# Altium integrated library Regulator_Switching.IntLib: 40 symbols
Pins are listed as number, name and electrical type; pins without a type are passive.

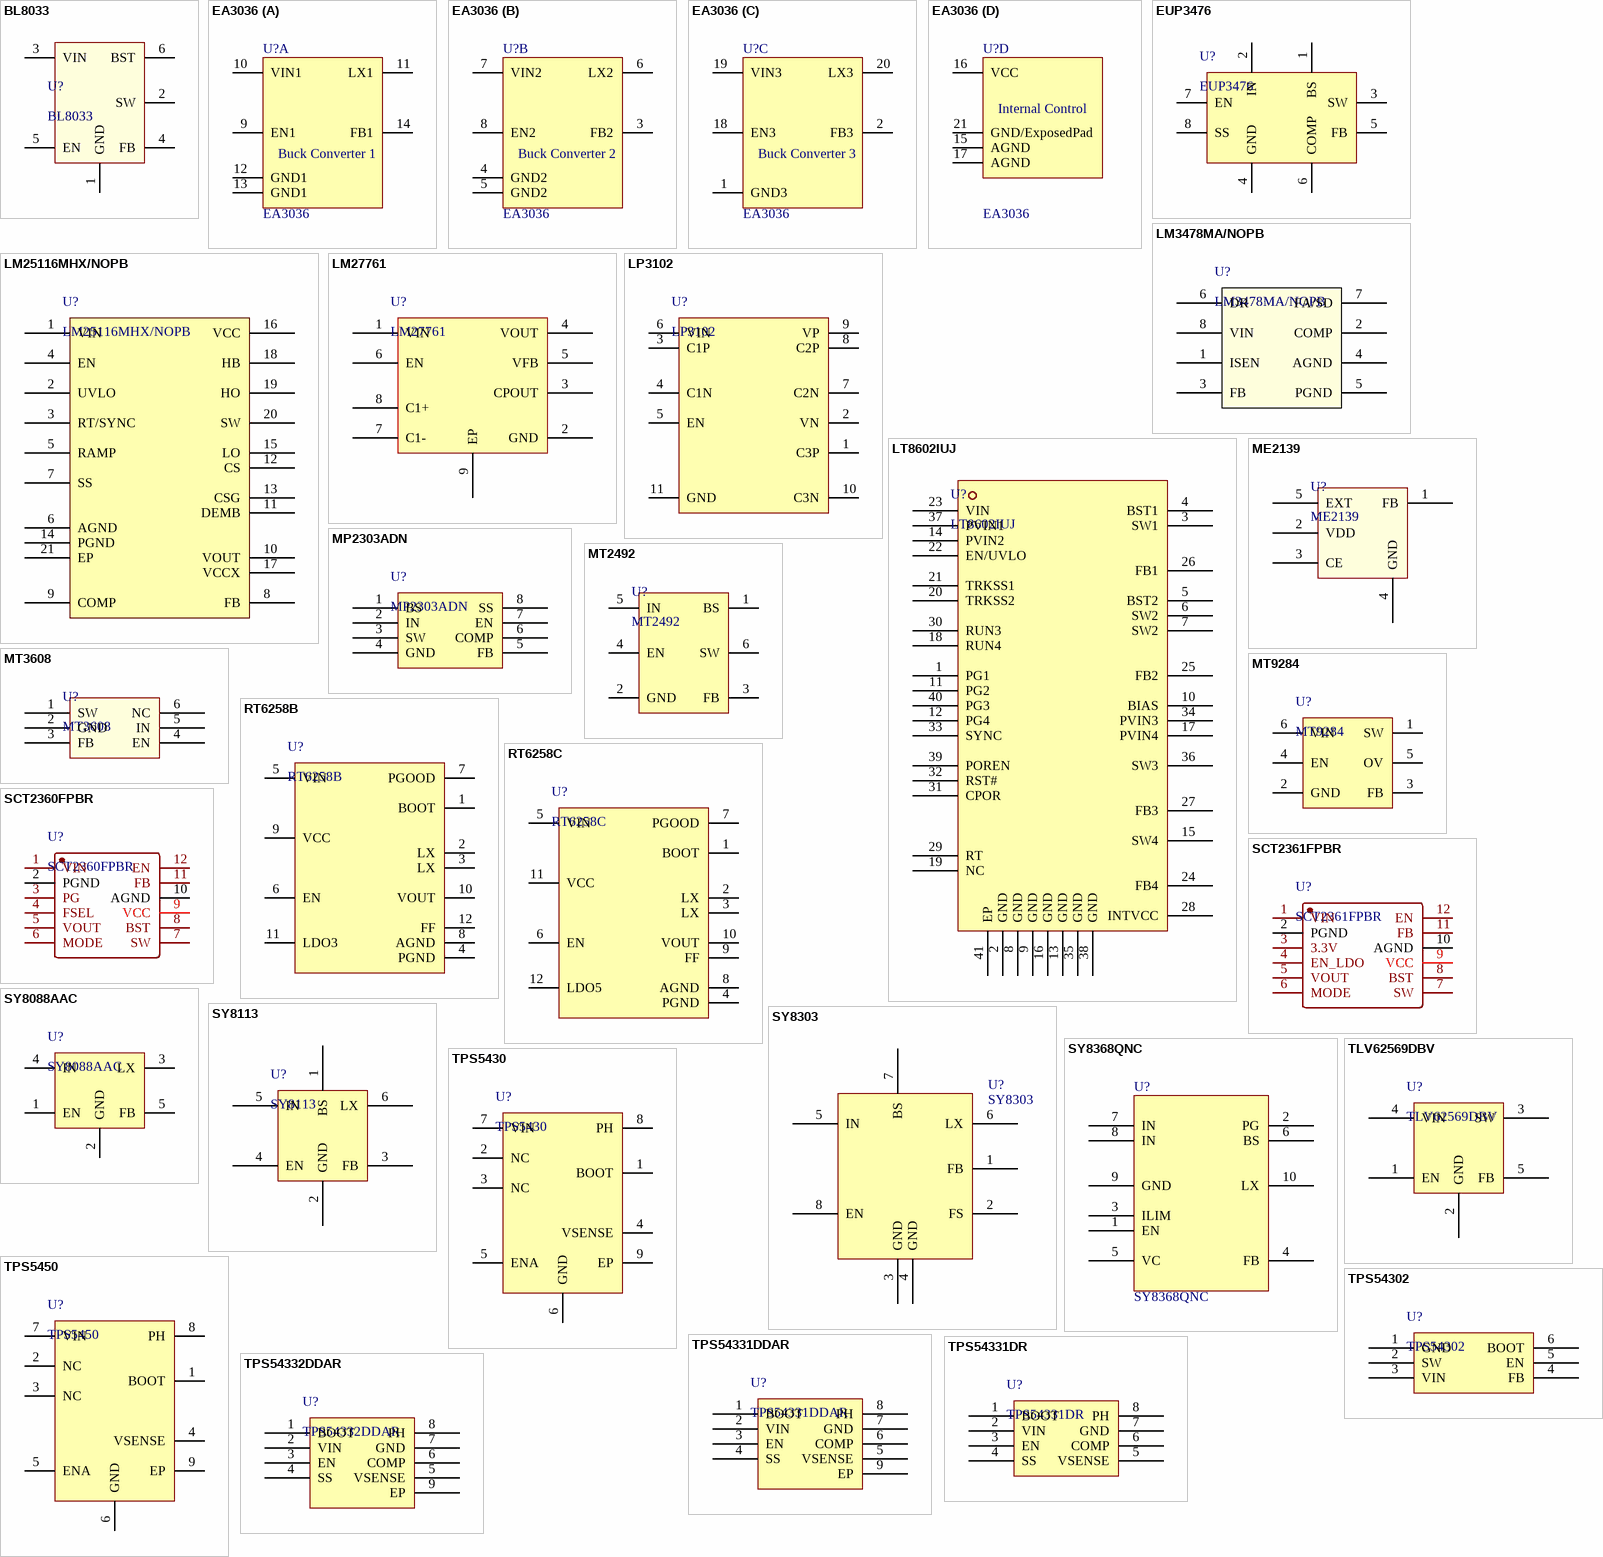
[diagram p0: symbols BL8033 to TPS54332DDAR]

## BL8033
designator U?
500KHz, 16V, 3A Synchronous Step-Down Converter
footprint SOT-23-6 (SOT23, 6-Leads, Body 2.90x2.80mm, Pitch 0.95mm, IPC Medium Density)
pins: 1 GND, 2 SW, 3 VIN, 4 FB, 5 EN, 6 BST

## EA3036
designator U?
EA3036 is a 3CH power management IC for applications powered by one Li-Ion battery or a DC 5V adapter.
footprint QFN-20-1EP_3x3mm_P0.4mm_EP1.6x1.6mm (QFN, 20-Leads, Body 3.00x3.00mm, Pitch 0.40mm, Thermal Pad 1.60x1.60mm, IPC Medium Density)
part A pins: 9 EN1 "CH1 turns on/turns off control input. Don’t leave this pin floating.", 10 VIN1 (power) "Power input pin of CH1. Recommended to use a 10uF MLCC capacitor between VIN1 pin and GND1 pin.", 11 LX1 "Internal MOSFET switching output of CH1. Connect LX1 pin with a low pass filter circuit to obtain a stable DC output voltage.", 12 GND1 (power) "Power ground pin of CH1.", 13 GND1 (power) "Power ground pin of CH1.", 14 FB1 "Feedback input of CH1. Connect to output voltage with a resistor divider."
part B pins: 3 FB2 "Feedback input of CH2. Connect to output voltage with a resistor divider.", 4 GND2 (power) "Power ground pin of CH2.", 5 GND2 (power) "Power ground pin of CH2.", 6 LX2 "Internal MOSFET switching output of CH2. Connect LX2 pin with a low pass filter circuit to obtain a stable DC output voltage.", 7 VIN2 (power) "Power input pin of CH2. Recommended to use a 10uF MLCC capacitor between VIN2 pin and GND2 pin.", 8 EN2 "CH2 turns on/turns off control input. Don’t leave this pin floating."
part C pins: 1 GND3 (power) "Power ground pin of CH3.", 2 FB3 "Feedback input of CH3. Connect to output voltage with a resistor divider.", 18 EN3 "CH3 turns on/turns off control input. Don’t leave this pin floating.", 19 VIN3 (power) "Power input pin of CH3. Recommended to use a 10uF MLCC capacitor between VIN3 pin and GND3 pin.", 20 LX3 "Internal MOSFET switching output of CH3. Connect SW3 pin with a low pass filter circuit to obtain a stable DC output voltage."
part D pins: 15 AGND (power) "Analog ground pin.", 16 VCC (power) "Input supply pin for internal control circuit.", 17 AGND (power) "Analog ground pin.", 21 GND/ExposedPad (power) "The Exposed Pad must be soldered to a large PCB copper plane and connected to GND for appropriate dissipation."
part A text: Buck Converter 1
part B text: Buck Converter 2
part C text: Buck Converter 3
part D text: Internal Control

## EUP3476
designator U?
3A, 28V, 500kHz Synchronous Step-Down Converter
footprint SO-8_3.9x4.9mm_P1.27mm (SOIC, 8-Leads, Body 4.9x3.90mm, Pitch 1.27mm, IPC Medium Density)
pins: 1 BS, 2 IN, 3 SW, 4 GND, 5 FB, 6 COMP, 7 EN, 8 SS

## LM3478MA/NOPB
designator U?
High Efficiency Low-Side N-Channel Controller for Switching Regulator; Manufacturer: Texas Instruments; basePN: LM3478; NSC_PackageReference: M08A; DatasheetURL: http://www.ti.com/lit/ds/symlink/lm3478.pdf; Manufacturer_Part_Number: LM3478MA/NOPB; Vendor: Texas Instruments; Copyright: Copyright (C) 2021 Accelerated Designs. All rights reserved; RefDes: RefDes; Type: DEV
footprint SO-8_3.9x4.9mm_P1.27mm (SOIC, 8-Leads, Body 4.9x3.90mm, Pitch 1.27mm, IPC Medium Density)
pins: 1 ISEN, 2 COMP, 3 FB, 4 AGND (power), 5 PGND (power), 6 DR, 7 FA/SD, 8 VIN

## LM25116MHX/NOPB
designator U?
LM25116 Wide-Range Synchronous Buck Controller
footprint SSOP-20-1EP_6.50x4.4mm_P0.65_EP3x4.2mm (TSOP, 20-Leads, Body 6.50x4.40mm, Pitch 0.65mm, IPC Medium Density)
pins: 1 VIN, 2 UVLO, 3 RT/SYNC, 4 EN, 5 RAMP, 6 AGND, 7 SS, 8 FB, 9 COMP, 10 VOUT, 11 DEMB, 12 CS, 13 CSG, 14 PGND, 15 LO, 16 VCC, 17 VCCX, 18 HB, 19 HO, 20 SW, 21 EP

## LM27761
designator U?
LM27761 低噪声稳压开关电容器电压逆变器
footprint WSON-8-1EP_2x2mm_P0.5mm_EP0.9x1.6mm (QFN, 8-Leads, Body 2.00x2.00mm, Pitch 0.50mm, Thermal Pad 0.90x1.60mm, IPC Medium Density)
pins: 1 VIN, 2 GND, 3 CPOUT, 4 VOUT, 5 VFB, 6 EN, 7 C1-, 8 C1+, 9 EP

## LP3102
designator U?
Dual Channel Charge Pump Power Solution For TFT LCD Panel
footprint TDFN-10-1EP_3X3mm_P0.5mm_EP2.5x1.55mm (SON, 10-Leads, Body 3.00x3.00mm, Pitch 0.50mm, Thermal Pad 2.50x1.55mm, IPC Medium Density)
pins: 1 C3P, 2 VN, 3 C1P, 4 C1N, 5 EN, 6 VIN, 7 C2N, 8 C2P, 9 VP, 10 C3N, 11 GND

## LT8602IUJ
designator U?
42V Quad Monolithic Synchronous Step-Down Regulator
footprint QFN-40-1EP_6x6mm_P0.5mm-EP4.5x4.5mm
pins: 1 PG1, 2 GND, 3 SW1, 4 BST1, 5 BST2, 6 SW2, 7 SW2, 8 GND, 9 GND, 10 BIAS, 11 PG2, 12 PG4, 13 GND, 14 PVIN2, 15 SW4, 16 GND, 17 PVIN4, 18 RUN4, 19 NC, 20 TRKSS2, 21 TRKSS1, 22 EN/UVLO, 23 VIN, 24 FB4, 25 FB2, 26 FB1, 27 FB3, 28 INTVCC, 29 RT, 30 RUN3, 31 CPOR, 32 RST#, 33 SYNC, 34 PVIN3, 35 GND, 36 SW3, 37 PVIN1, 38 GND, 39 POREN, 40 PG3, 41 EP

## ME2139
designator U?
ULTRA-SMALL PACKAGE PWM/PFM SWITCHING CONTROL STEP-UP SWITCHING REGULATOR
footprint SOT-23-5 (SOT23, 5-Leads, Body 2.90x2.45mm, Pitch 0.95mm, IPC Medium Density)
pins: 1 FB, 2 VDD, 3 CE, 4 GND, 5 EXT

## MP2303ADN
designator U?
footprint SO-8_3.9x4.9mm_P1.27mm (SOIC, 8-Leads, Body 4.9x3.90mm, Pitch 1.27mm, IPC Medium Density)
pins: 1 BS, 2 IN, 3 SW, 4 GND, 5 FB, 6 COMP, 7 EN, 8 SS

## MT2492
designator U?
600KHz, 16V，2A Synchronous Step-Down Converter
footprint SOT-23-6 (SOT23, 6-Leads, Body 2.90x2.80mm, Pitch 0.95mm, IPC Medium Density)
pins: 1 BS, 2 GND, 3 FB, 4 EN, 5 IN, 6 SW

## MT3608
designator U?
High Efficiency 1.2MHz 2A Step Up Converter
footprint SOT-23-6 (SOT23, 6-Leads, Body 2.90x2.80mm, Pitch 0.95mm, IPC Medium Density)
pins: 1 SW, 2 GND, 3 FB, 4 EN, 5 IN, 6 NC

## MT9284
designator U?
1.2MHz, High Efficiency Boost White LED Driver
footprint SOT-23-6 (SOT23, 6-Leads, Body 2.90x2.80mm, Pitch 0.95mm, IPC Medium Density)
pins: 1 SW, 2 GND, 3 FB, 4 EN, 5 OV, 6 VIN

## RT6258B
designator U?
8A, 23V Synchronous Step-Down Converter with 3.3V LDO
footprint UQFN-12_RT6258B/C
pins: 1 BOOT, 2 LX, 3 LX, 4 PGND, 5 VIN, 6 EN, 7 PGOOD, 8 AGND, 9 VCC, 10 VOUT, 11 LDO3, 12 FF

## RT6258C
designator U?
8A, 23V Synchronous Step-Down Converter with 5V LDO
footprint UQFN-12_RT6258B/C
pins: 1 BOOT, 2 LX, 3 LX, 4 PGND, 5 VIN, 6 EN, 7 PGOOD, 8 AGND, 9 FF, 10 VOUT, 11 VCC, 12 LDO5

## SCT2360FPBR
designator U?
4V-28V Vin, 6A Synchronous Step-down DCDC Converter
footprint QFN-12_L3.0-W3.0-P0.50-TL_SCT2360FPBR
pins: 1 VIN, 2 PGND, 3 PG, 4 FSEL, 5 VOUT, 6 MODE, 7 SW, 8 BST, 9 VCC, 10 AGND, 11 FB, 12 EN

## SCT2361FPBR
designator U?
4V-28V Vin, 6A Synchronous Step-down DCDC Converter Integrated with a 3.3V and 150mA LDO
footprint QFN-12_L3.0-W3.0-P0.50-TL_SCT2361FPBR
pins: 1 VIN, 2 PGND, 3 3.3V, 4 EN_LDO, 5 VOUT, 6 MODE, 7 SW, 8 BST, 9 VCC, 10 AGND, 11 FB, 12 EN

## SY8088AAC
designator U?
High Efficiency 1.5MHz, 1A Synchronous Step Down Regulator
footprint SOT-23-5 (SOT23, 5-Leads, Body 2.90x2.45mm, Pitch 0.95mm, IPC Medium Density)
pins: 1 EN, 2 GND, 3 LX, 4 IN, 5 FB

## SY8113
designator U?
High Efficiency, 500kHz, 3A, 18V Input Synchronous Step Down Regulator
footprint SOT-23-6 (SOT23, 6-Leads, Body 2.90x2.80mm, Pitch 0.95mm, IPC Medium Density)
pins: 1 BS, 2 GND, 3 FB, 4 EN, 5 IN, 6 LX

## SY8303
designator U?
SY8303 3A DCDC 40V max; input voltage: 4.5V ~ 40v
footprint TSOT23-8
pins: 1 FB, 2 FS, 3 GND, 4 GND, 5 IN, 6 LX, 7 BS, 8 EN

## SY8368QNC
designator U?
8A BUCK
footprint SY8368_QFN30X30-10
pins: 1 EN, 2 PG, 3 ILIM, 4 FB, 5 VC, 6 BS, 7 IN, 8 IN, 9 GND, 10 LX

## TLV62569DBV
designator U?
High Efficiency Synchronous Buck Converter, Adjustable Output 0.6V-5.5V, 2A, SOT package
footprint SOT-23-5 (SOT23, 5-Leads, Body 2.90x2.45mm, Pitch 0.95mm, IPC Medium Density)
pins: 1 EN, 2 GND, 3 SW, 4 VIN, 5 FB

## TPS5430
designator U?
TPS543x 3-A, Wide Input Range, Step-Down Converter
footprint SO-8_1EP_3.9x4.9mm_P1.27mm_EP2x3mm (SOIC, 8-Leads, Body 4.9x3.90mm, Pitch 1.27mm, IPC Medium Density)
pins: 1 BOOT, 2 NC, 3 NC, 4 VSENSE, 5 ENA, 6 GND, 7 VIN, 8 PH, 9 EP

## TPS5450
designator U?
TPS545x 5-A, Wide Input Range, Step-Down Converter
footprint SO-8_1EP_3.9x4.9mm_P1.27mm_EP2x3mm (SOIC, 8-Leads, Body 4.9x3.90mm, Pitch 1.27mm, IPC Medium Density)
pins: 1 BOOT, 2 NC, 3 NC, 4 VSENSE, 5 ENA, 6 GND, 7 VIN, 8 PH, 9 EP

## TPS54302
designator U?
4.5V 至 28V 输入、3A 输出、EMI 友好型同步降压转换器
footprint SOT-23-6 (SOT23, 6-Leads, Body 2.90x2.80mm, Pitch 0.95mm, IPC Medium Density)
pins: 1 GND, 2 SW, 3 VIN, 4 FB, 5 EN, 6 BOOT

## TPS54331DDAR
designator U?
TPS54331 3-A, 28-V Input, Step Down DC-DC Converter With Eco-mode™
footprint SO-8_1EP_3.9x4.9mm_P1.27mm_EP2x3mm (SOIC, 8-Leads, Body 4.9x3.90mm, Pitch 1.27mm, IPC Medium Density)
pins: 1 BOOT, 2 VIN, 3 EN, 4 SS, 5 VSENSE, 6 COMP, 7 GND, 8 PH, 9 EP

## TPS54331DR
designator U?
TPS54331 3-A, 28-V Input, Step Down DC-DC Converter With Eco-mode™
footprint SO-8_3.9x4.9mm_P1.27mm (SOIC, 8-Leads, Body 4.9x3.90mm, Pitch 1.27mm, IPC Medium Density)
pins: 1 BOOT, 2 VIN, 3 EN, 4 SS, 5 VSENSE, 6 COMP, 7 GND, 8 PH

## TPS54332DDAR
designator U?
TPS54332 3.5-A, 28-V Input, Step Down DC-DC Converter With Eco-mode™
footprint SO-8_1EP_3.9x4.9mm_P1.27mm_EP2x3mm (SOIC, 8-Leads, Body 4.9x3.90mm, Pitch 1.27mm, IPC Medium Density)
pins: 1 BOOT, 2 VIN, 3 EN, 4 SS, 5 VSENSE, 6 COMP, 7 GND, 8 PH, 9 EP

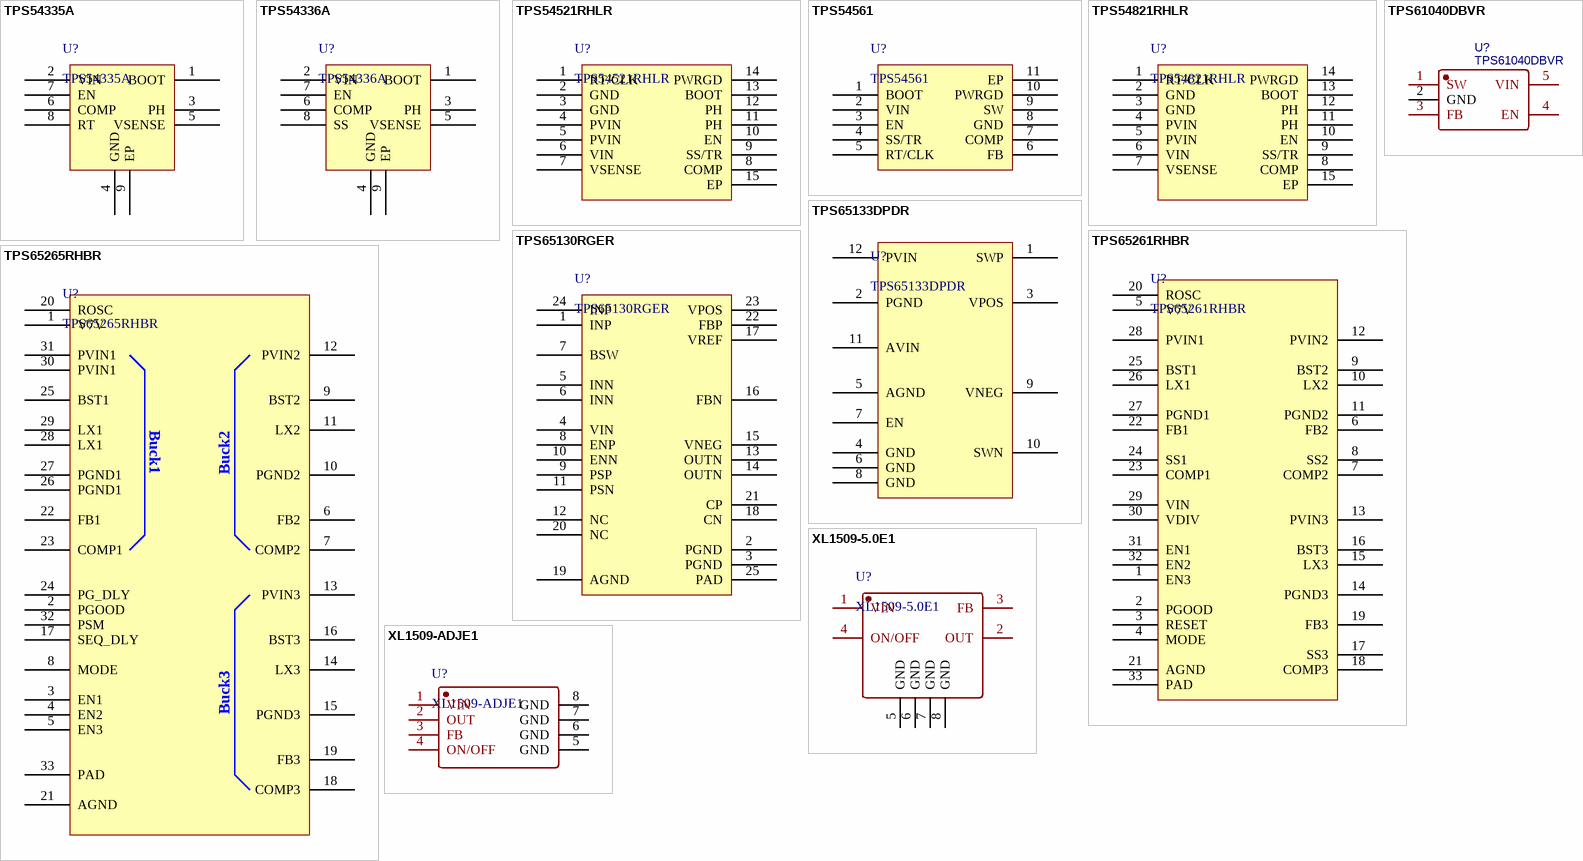
[diagram p1: symbols TPS54335A to XL1509-ADJE1]

## TPS54335A
designator U?
TPS54335A 4.5V 至 28V 输入、3A 输出、同步降压 DC-DC 转换器
footprint SO-8_1EP_3.9x4.9mm_P1.27mm_EP2x3mm (SOIC, 8-Leads, Body 4.9x3.90mm, Pitch 1.27mm, IPC Medium Density)
pins: 1 BOOT, 2 VIN, 3 PH, 4 GND, 5 VSENSE, 6 COMP, 7 EN, 8 RT, 9 EP

## TPS54336A
designator U?
TPS54336A 4.5V 至 28V 输入、3A 输出、同步降压 DC-DC 转换器
footprint SO-8_1EP_3.9x4.9mm_P1.27mm_EP2x3mm (SOIC, 8-Leads, Body 4.9x3.90mm, Pitch 1.27mm, IPC Medium Density)
pins: 1 BOOT, 2 VIN, 3 PH, 4 GND, 5 VSENSE, 6 COMP, 7 EN, 8 SS, 9 EP

## TPS54521RHLR
designator U?
支持断续模式的 4.5V 至 17 V 输入、5A 同步降压 SWIFT转换器
footprint VQFN_14-1EP_3.6x3.6mm_P0.5mm_EP2.05x2.05mm (QFN, 20-Leads, Body 3.50x3.50mm, Pitch 0.50mm, Thermal Pad 2.05x2.00mm, IPC Medium Density)
pins: 1 RT/CLK, 2 GND, 3 GND, 4 PVIN, 5 PVIN, 6 VIN, 7 VSENSE, 8 COMP, 9 SS/TR, 10 EN, 11 PH, 12 PH, 13 BOOT, 14 PWRGD, 15 EP

## TPS54561
designator U?
4.5V 至 60V 输入、5A 降压直流/直流转换器
footprint WSON-10-1EP_4x4mm_P0.8mm_EP3x2.6mm (SON, 10-Leads, Body 4.00x4.00mm, Pitch 0.80mm, Thermal Pad 3.20x2.58mm, IPC High Density)
pins: 1 BOOT, 2 VIN, 3 EN, 4 SS/TR, 5 RT/CLK, 6 FB, 7 COMP, 8 GND, 9 SW, 10 PWRGD, 11 EP

## TPS54821RHLR
designator U?
支持断续模式的 4.5V 至 17 V 输入、8A 同步降压 SWIFT转换器
footprint VQFN_14-1EP_3.6x3.6mm_P0.5mm_EP2.05x2.05mm (QFN, 20-Leads, Body 3.50x3.50mm, Pitch 0.50mm, Thermal Pad 2.05x2.00mm, IPC Medium Density)
pins: 1 RT/CLK, 2 GND, 3 GND, 4 PVIN, 5 PVIN, 6 VIN, 7 VSENSE, 8 COMP, 9 SS/TR, 10 EN, 11 PH, 12 PH, 13 BOOT, 14 PWRGD, 15 EP

## TPS61040DBVR
designator U?
BOM_Manufacturer: TI; BOM_Supplier: LCSC; BOM_Manufacturer Part: TPS61040DBVR; BOM_Supplier Part: C7722; BOM_JLCPCB Part Class: Basic Part; spicePre: U; spiceSymbolName: TPS61040DBVR
footprint SOT-23-5 (SOT23, 5-Leads, Body 2.90x2.45mm, Pitch 0.95mm, IPC Medium Density)
pins: 1 SW, 2 GND, 3 FB, 4 EN, 5 VIN

## TPS65130RGER
designator U?
TPS65130RGER 0.7A 双路正负输出直流/直流转换器
footprint QFN-24-1EP_4x4_P0.5mm_EP2.45x2.45mm (QFN, 24-Leads, Body 4.00x4.00mm, Pitch 0.50mm, Thermal Pad 2.45x2.45mm, IPC Low Density)
pins: 1 INP, 2 PGND, 3 PGND, 4 VIN, 5 INN, 6 INN, 7 BSW, 8 ENP, 9 PSP, 10 ENN, 11 PSN, 12 NC, 13 OUTN, 14 OUTN, 15 VNEG, 16 FBN, 17 VREF, 18 CN, 19 AGND, 20 NC, 21 CP, 22 FBP, 23 VPOS, 24 INP, 25 PAD

## TPS65133DPDR
designator U?
±5-V, 250-mA Dual-Output Power Supply
footprint WSON-12-1EP_3x3mm-P0.45
pins: 1 SWP, 2 PGND, 3 VPOS, 4 GND, 5 AGND, 6 GND, 7 EN, 8 GND, 9 VNEG, 10 SWN, 11 AVIN, 12 PVIN

## TPS65261RHBR
designator U?
TPS6526x 4.5V 至 18V 输入电压、3A/2A/2A 输出电流、三路同步降压转换器
footprint QFN-32-1EP_5x5MM_P0.5mm_EP3.45x3.45mm (QFN, 32-Leads, Body 5.00x5.00mm, Pitch 0.50mm, Thermal Pad 3.70x3.70mm, IPC Low Density)
pins: 1 EN3, 2 PGOOD, 3 RESET, 4 MODE, 5 V7V, 6 FB2, 7 COMP2, 8 SS2, 9 BST2, 10 LX2, 11 PGND2, 12 PVIN2, 13 PVIN3, 14 PGND3, 15 LX3, 16 BST3, 17 SS3, 18 COMP3, 19 FB3, 20 ROSC, 21 AGND, 22 FB1, 23 COMP1, 24 SS1, 25 BST1, 26 LX1, 27 PGND1, 28 PVIN1, 29 VIN, 30 VDIV, 31 EN1, 32 EN2, 33 PAD

## TPS65265RHBR
designator U?
TPS65265 4.5V 至 17V 输入电压、5A/3A/2A 输出电流三路同步降压转换器
footprint VQFN-32-1EP_5x5mm_P0.5mm_EP3.5x3.5mm (QFN, 32-Leads, Body 5.00x5.00mm, Pitch 0.50mm, Thermal Pad 3.50x3.50mm, IPC Medium Density)
pins: 1 V7V, 2 PGOOD, 3 EN1, 4 EN2, 5 EN3, 6 FB2, 7 COMP2, 8 MODE, 9 BST2, 10 PGND2, 11 LX2, 12 PVIN2, 13 PVIN3, 14 LX3, 15 PGND3, 16 BST3, 17 SEQ_DLY, 18 COMP3, 19 FB3, 20 ROSC, 21 AGND, 22 FB1, 23 COMP1, 24 PG_DLY, 25 BST1, 26 PGND1, 27 PGND1, 28 LX1, 29 LX1, 30 PVIN1, 31 PVIN1, 32 PSM, 33 PAD
text: Buck1; Buck2; Buck3

## XL1509-5.0E1
designator U?
5V 2A 150KHz 40V Buck DC to DC Converter
footprint SO-8_3.9x4.9mm_P1.27mm (SOIC, 8-Leads, Body 4.9x3.90mm, Pitch 1.27mm, IPC Medium Density)
pins: 1 VIN, 2 OUT, 3 FB, 4 ON/OFF, 5 GND, 6 GND, 7 GND, 8 GND

## XL1509-ADJE1
designator U?
2A 150KHz 40V Buck DC to DC Converter
footprint SO-8_3.9x4.9mm_P1.27mm (SOIC, 8-Leads, Body 4.9x3.90mm, Pitch 1.27mm, IPC Medium Density)
pins: 1 VIN, 2 OUT, 3 FB, 4 ON/OFF, 5 GND, 6 GND, 7 GND, 8 GND